# Altium footprint library 针式二极管.PcbLib: 6 footprints
Each footprint in its own frame and in the unit in brackets; x right, y up, seen from the top. Pads: shape width x height; smd on the part's side, far side on the other; paste and mask are expansions set on the pad; w line width, h text height; cw(c..) or ccw(c..) is an arc to the next point about the centre after c.
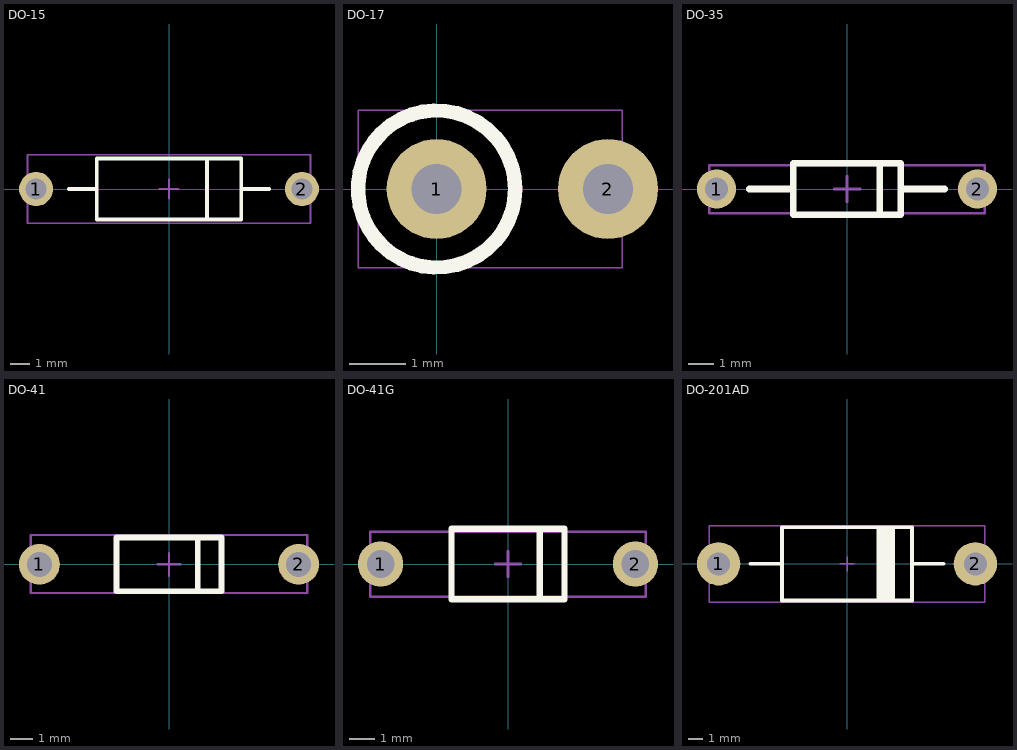
[diagram p0: the footprints below, top view; thin cyan lines are the x and y axes]

## DO-15 [mm] "二极管封装（针式）"
height 3.6
pads (2):
  round 1.8 hole 1.1: 1(-7,0) 2(7,0)
Top Overlay:
  lines w0.2: -5.283,0 -3.81,0 ; 2,-1.6 2,1.6 ; 3.81,0 5.283,0 ; -3.81,-1.6 3.81,-1.6 3.81,1.6 -3.81,1.6 -3.81,-1.6
Mechanical 13:
  lines w0.1: -7.445,-1.805 -7.445,1.805 7.445,1.805 7.445,-1.805 -7.445,-1.805
Mechanical 15:
  lines w0.1: -0.5,0 0,0 ; 0,-0.5 0,0 ; 0,0.5 0,0 ; 0.508,0 0,0
3D body: height 3.6, standoff -4, extent -7.445,-1.805 7.445,1.805

## DO-17 [mil]
height 240
pads (2):
  round 70 hole 35 unplated: 1(0,0) 2(120,0)
Top Overlay:
  circle w10: c0,0 r55
Mechanical 13:
  lines w1: -55,-55 130,-55 130,55 -55,55 -55,-55
3D body: height 220, standoff -120, extent -55,-55 130,55

## DO-35 [mil] "Zener"
height 78.74
pads (2):
  round 60 hole 35.43: 1(-200,0) 2(200,0)
Top Overlay:
  lines w10: -150,0 -82.68,0 ; 50,-39.37 50,39.37 ; 82.68,0 150,0 ; -82.68,-39.37 82.68,-39.37 82.68,39.37 -82.68,39.37 -82.68,-39.37
Mechanical 13:
  lines w3.94: -211.02,-37 -211.02,36.23 211.02,36.23 211.02,-37 -211.02,-37
Mechanical 15:
  lines w3.94: -19.68,0 0,0 ; 0,-19.68 0,0 ; 0,19.68 0,0 ; 20,0 0,0
3D body: height 75.98, standoff -115.16, extent -211.02,-37 211.02,36.23

## DO-41 [mm] "二极管封装（针式）"
height 2.8
pads (2):
  round 1.8 hole 1.1: 1(-5.715,0) 2(5.715,0)
Top Overlay:
  lines w0.254: 1.27,-1.188 1.27,1.188 ; -2.318,-1.188 2.318,-1.188 2.318,1.188 -2.318,1.188 -2.318,-1.188
Mechanical 13:
  lines w0.1: -6.096,-1.26 -6.096,1.29 6.096,1.29 6.096,-1.26 -6.096,-1.26
Mechanical 15:
  lines w0.1: -0.5,0 0,0 ; 0,-0.5 0,0 ; 0,0.5 0,0 ; 0.508,0 0,0
3D body: height 2.78, standoff -2.47, extent -6.096,-1.26 6.096,1.29

## DO-41G [mm] "玻璃封装插件稳压管"
height 2.8
pads (2):
  round 1.8 hole 1.1: 1(-5.08,0) 2(5.08,0)
Top Overlay:
  lines w0.254: 1.27,-1.4 1.27,1.4 ; -2.25,-1.4 -2.25,1.4 2.25,1.4 2.25,-1.4 -2.25,-1.4
Mechanical 13:
  lines w0.1: -5.485,-1.315 5.485,-1.315 5.485,1.295 -5.485,1.295 -5.485,-1.315
Mechanical 15:
  lines w0.1: -0.5,0 0,0 ; 0,-0.5 0,0 ; 0,0.5 0,0 ; 0.508,0 0,0
3D body: height 2.62, standoff -3.19, extent -5.485,-1.315 5.485,1.295

## DO-201AD [mm] "1N5407 diode"
height 5.5
pads (2):
  round 3 hole 1.6: 1(-8.89,0) 2(8.89,0)
Top Overlay:
  rectangle: 2.057,-2.54 3.327,2.54
  lines w0.254: -6.68,0 -4.5,0 ; 4.5,0 6.68,0 ; -4.5,-2.54 4.5,-2.54 4.5,2.54 -4.5,2.54 -4.5,-2.54
Mechanical 13:
  lines w0.1: -9.54,-2.668 9.54,-2.668 9.54,2.642 -9.54,2.642 -9.54,-2.668
Mechanical 15:
  lines w0.1: -0.5,0 0,0 ; 0,-0.5 0,0 ; 0,0.5 0,0 ; 0.508,0 0,0
3D body: height 5.46, standoff -4.5, extent -9.54,-2.668 9.54,2.642